# EAGLE library part MOLEX-SD-53398-0671 (library molex-custom)
1.25mm Pitch PicoBlade™ Header, Surface Mount, Vertical, 6 Circuits
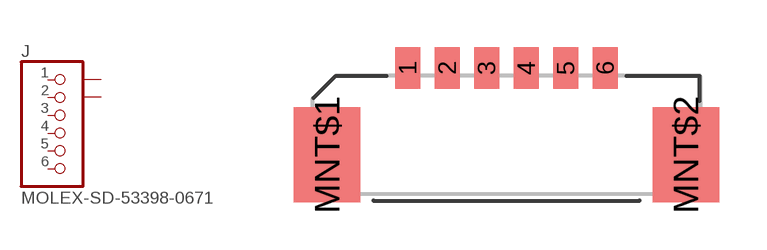
[diagram p2: symbol with the pads of MOLEX-SD-53398-0671; footprint MOLEX-SD-53398-0671]

Designator prefix J

## MOLEX-SD-53398-0671  [MOLEX-SD-53398-0671]
1  1  pas
2  2  pas
3  3  pas
4  4  pas
5  5  pas
6  6  pas
MNT$1  MNT$1  pwr
MNT$2  MNT$2  pwr

## Footprint MOLEX-SD-53398-0671 (pad centres in mm)
1.25mm Pitch PicoBlade™ Header, Surface Mount, Vertical, 6 Circuits
smd 0.8 x 1.3: 1 -3.125,2.75; 2 -1.875,2.75; 3 -0.625,2.75; 4 0.625,2.75; 5 1.875,2.75; 6 3.125,2.75
smd 2.1 x 3: MNT$1 -5.675,0; MNT$2 5.675,0